# Altium integrated library Analog Devices Operational Amplifiers.IntLib: 2102 symbols (part 42 of 70)
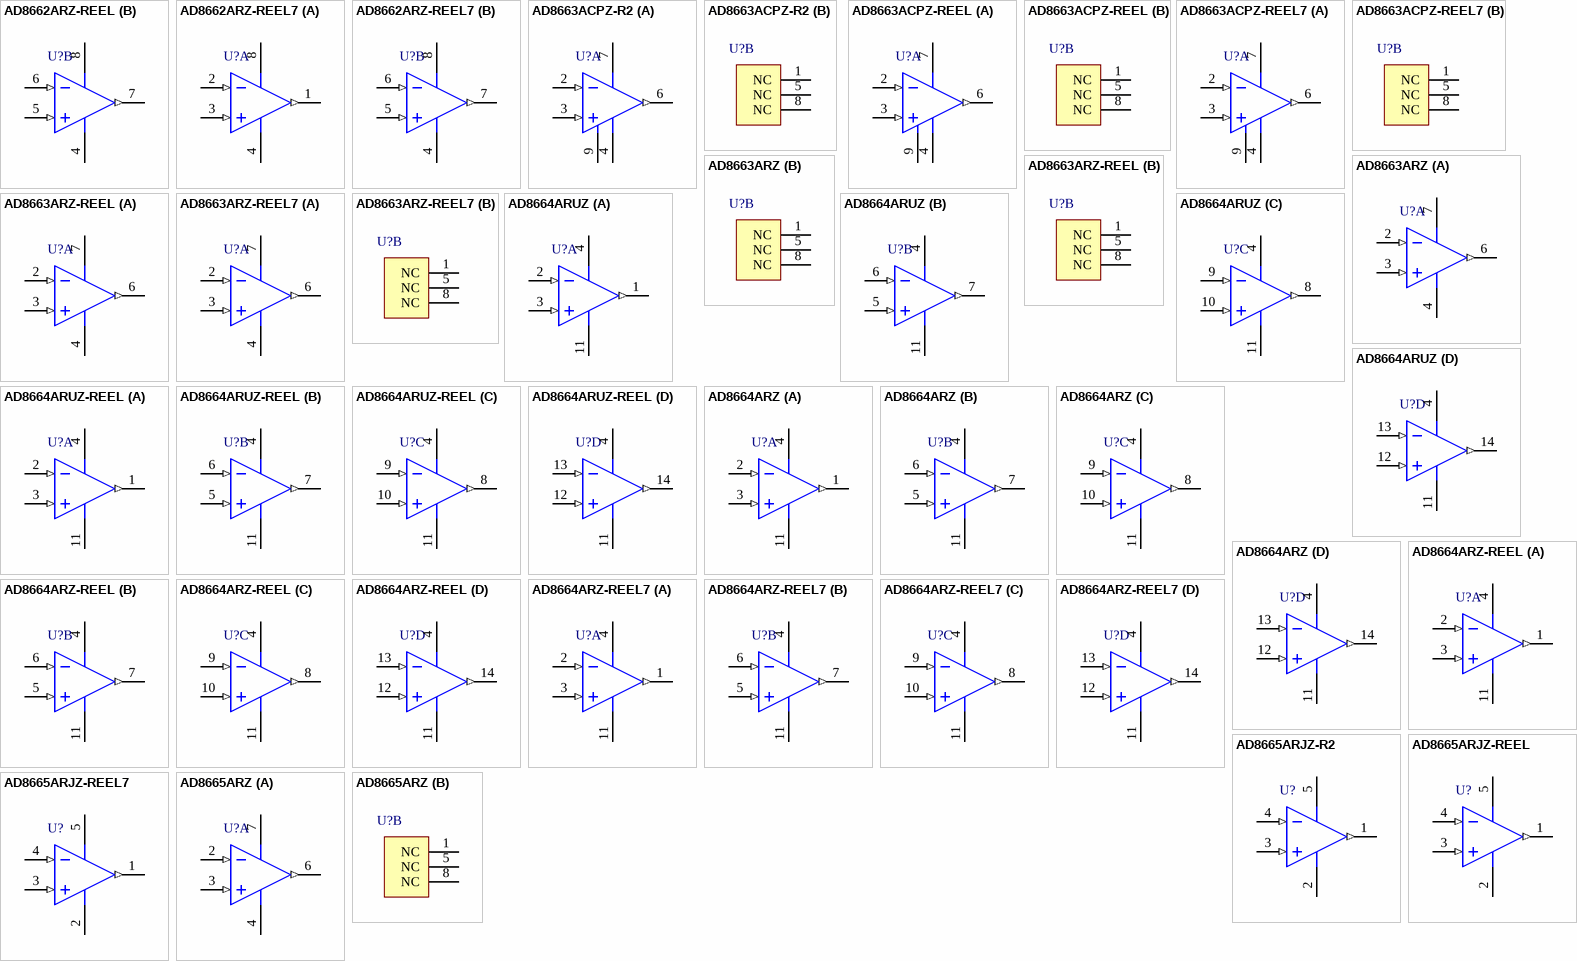
[diagram p155: symbols AD8662ARZ-REEL to AD8665ARZ]

## AD8664ARUZ
designator U?
Quad Channel Wide Bandwidth Operational Amplifier, 4 MHz BW, 3.5 V/us SR, Industrial, 14-pin SOP (RU-14), Tube; Generic Part Number: AD8664; Manufacturer: Analog Devices; PartNumber: AD8664ARUZ; Amplifiers Per Package: 4; Input Bias Current: 300fA; Input Offset Voltage: 50uV; Iq/Amp: 1.55mA; Small Signal Bandwidth: 4MHz; V Span Max: 16V; V Span Min: 5V; DatasheetVersion: Rev. D; PackageReference: RU-14; PackageDescription: 14-Pin Thin Shrink Small Outline Package, Body 5 x 4.4 mm, Pitch 0.65 mm; Supplier 1: Digi-Key; Supplier Part Number 1: AD8664ARUZ-ND; Supplier 2: Newark; Supplier Part Number 2: 28M4130; Slew Rate: 3.5V/us; Mounting Technology: Surface Mount; Code_JEDEC: MO-153AB-1; ComponentLink1Description: Manufacturer URL; ComponentLink1URL: http://www.analog.com/en/index.html; ComponentLink2Description: Datasheet; ComponentLink2URL: http://www.analog.com/static/imported-files/data_sheets/AD8661_8662.pdf; ComponentLink3Description: Package Specification; ComponentLink3URL: http://www.analog.com/static/imported-files/packages/36057385283879153717235186773RU14.pdf
footprint ADI-RU-14_N (SOP, 14-Leads, Body 5x4.4mm, Pitch 0.65mm, IPC Medium Density)
footprint ADI-RU-14_L (SOP, 14-Leads, Body 5x4.4mm, Pitch 0.65mm, IPC High Density)
footprint ADI-RU-14_M (SOP, 14-Leads, Body 5x4.4mm, Pitch 0.65mm, IPC Low Density)
pins on every part: 4 +V (power), 11 -V (power)
part A pins: 1 OUT A (out), 2 -IN A (in), 3 +IN A (in)
part B pins: 5 +IN B (in), 6 -IN B (in), 7 OUT B (out)
part C pins: 8 OUT C (out), 9 -IN C (in), 10 +IN C (in)
part D pins: 12 +IN D (in), 13 -IN D (in), 14 OUT D (out)

## AD8664ARUZ-REEL
designator U?
Quad Channel Wide Bandwidth Operational Amplifier, 4 MHz BW, 3.5 V/us SR, Industrial, 14-pin SOP (RU-14), Reel; Generic Part Number: AD8664; Manufacturer: Analog Devices; PartNumber: AD8664ARUZ-REEL; Amplifiers Per Package: 4; Input Bias Current: 300fA; Input Offset Voltage: 50uV; Iq/Amp: 1.55mA; Small Signal Bandwidth: 4MHz; V Span Max: 16V; V Span Min: 5V; DatasheetVersion: Rev. D; PackageReference: RU-14; PackageDescription: 14-Pin Thin Shrink Small Outline Package, Body 5 x 4.4 mm, Pitch 0.65 mm; Supplier 1: Digi-Key; Supplier Part Number 1: AD8664ARUZ-REEL-ND; Supplier 2: Newark; Supplier Part Number 2: 28M4131; Slew Rate: 3.5V/us; Mounting Technology: Surface Mount; Code_JEDEC: MO-153AB-1; ComponentLink1Description: Manufacturer URL; ComponentLink1URL: http://www.analog.com/en/index.html; ComponentLink2Description: Datasheet; ComponentLink2URL: http://www.analog.com/static/imported-files/data_sheets/AD8661_8662.pdf; ComponentLink3Description: Package Specification; ComponentLink3URL: http://www.analog.com/static/imported-files/packages/36057385283879153717235186773RU14.pdf
footprint ADI-RU-14_N (SOP, 14-Leads, Body 5x4.4mm, Pitch 0.65mm, IPC Medium Density)
footprint ADI-RU-14_L (SOP, 14-Leads, Body 5x4.4mm, Pitch 0.65mm, IPC High Density)
footprint ADI-RU-14_M (SOP, 14-Leads, Body 5x4.4mm, Pitch 0.65mm, IPC Low Density)
pins on every part: 4 +V (power), 11 -V (power)
part A pins: 1 OUT A (out), 2 -IN A (in), 3 +IN A (in)
part B pins: 5 +IN B (in), 6 -IN B (in), 7 OUT B (out)
part C pins: 8 OUT C (out), 9 -IN C (in), 10 +IN C (in)
part D pins: 12 +IN D (in), 13 -IN D (in), 14 OUT D (out)

## AD8664ARZ
designator U?
Quad Channel Wide Bandwidth Operational Amplifier, 4 MHz BW, 3.5 V/us SR, Industrial, 14-pin SOIC (R-14), Tube; Generic Part Number: AD8664; Manufacturer: Analog Devices; PartNumber: AD8664ARZ; Amplifiers Per Package: 4; Input Bias Current: 300fA; Input Offset Voltage: 50uV; Iq/Amp: 1.55mA; Small Signal Bandwidth: 4MHz; V Span Max: 16V; V Span Min: 5V; DatasheetVersion: Rev. D; PackageVersion: 060606-A; PackageReference: R-14; PackageDescription: 14-Pin Standard Small Outline Package, Body 8.65 x 3.9 mm, Pitch 1.27 mm; Supplier 1: Digi-Key; Supplier Part Number 1: AD8664ARZ-ND; Supplier 2: Farnell; Supplier Part Number 2: 1498687; Supplier 3: Newark; Supplier Part Number 3: 15P1030; Slew Rate: 3.5V/us; Mounting Technology: Surface Mount; Code_JEDEC: MS-012-AB; ComponentLink1Description: Manufacturer URL; ComponentLink1URL: http://www.analog.com/en/index.html; ComponentLink2Description: Datasheet; ComponentLink2URL: http://www.analog.com/static/imported-files/data_sheets/AD8661_8662.pdf; ComponentLink3Description: Package Specification; ComponentLink3URL: http://www.analog.com/static/imported-files/packages/PKG_PDF/SOIC_Narrow%20(R)/R_14.pdf
footprint ADI-R-14_N (SOIC, 14-Leads, Body 8.65x3.9mm, Pitch 1.27mm, IPC Medium Density)
footprint ADI-R-14_L (SOIC, 14-Leads, Body 8.65x3.9mm, Pitch 1.27mm, IPC High Density)
footprint ADI-R-14_M (SOIC, 14-Leads, Body 8.65x3.9mm, Pitch 1.27mm, IPC Low Density)
pins on every part: 4 +V (power), 11 -V (power)
part A pins: 1 OUT A (out), 2 -IN A (in), 3 +IN A (in)
part B pins: 5 +IN B (in), 6 -IN B (in), 7 OUT B (out)
part C pins: 8 OUT C (out), 9 -IN C (in), 10 +IN C (in)
part D pins: 12 +IN D (in), 13 -IN D (in), 14 OUT D (out)

## AD8664ARZ-REEL
designator U?
Quad Channel Wide Bandwidth Operational Amplifier, 4 MHz BW, 3.5 V/us SR, Industrial, 14-pin SOIC (R-14), Reel; Generic Part Number: AD8664; Manufacturer: Analog Devices; PartNumber: AD8664ARZ-REEL; Amplifiers Per Package: 4; Input Bias Current: 300fA; Input Offset Voltage: 50uV; Iq/Amp: 1.55mA; Small Signal Bandwidth: 4MHz; V Span Max: 16V; V Span Min: 5V; DatasheetVersion: Rev. D; PackageVersion: 060606-A; PackageReference: R-14; PackageDescription: 14-Pin Standard Small Outline Package, Body 8.65 x 3.9 mm, Pitch 1.27 mm; Supplier 1: Digi-Key; Supplier Part Number 1: AD8664ARZ-REEL-ND; Slew Rate: 3.5V/us; Mounting Technology: Surface Mount; Code_JEDEC: MS-012-AB; ComponentLink1Description: Manufacturer URL; ComponentLink1URL: http://www.analog.com/en/index.html; ComponentLink2Description: Datasheet; ComponentLink2URL: http://www.analog.com/static/imported-files/data_sheets/AD8661_8662.pdf; ComponentLink3Description: Package Specification; ComponentLink3URL: http://www.analog.com/static/imported-files/packages/PKG_PDF/SOIC_Narrow%20(R)/R_14.pdf
footprint ADI-R-14_N (SOIC, 14-Leads, Body 8.65x3.9mm, Pitch 1.27mm, IPC Medium Density)
footprint ADI-R-14_L (SOIC, 14-Leads, Body 8.65x3.9mm, Pitch 1.27mm, IPC High Density)
footprint ADI-R-14_M (SOIC, 14-Leads, Body 8.65x3.9mm, Pitch 1.27mm, IPC Low Density)
pins on every part: 4 +V (power), 11 -V (power)
part A pins: 1 OUT A (out), 2 -IN A (in), 3 +IN A (in)
part B pins: 5 +IN B (in), 6 -IN B (in), 7 OUT B (out)
part C pins: 8 OUT C (out), 9 -IN C (in), 10 +IN C (in)
part D pins: 12 +IN D (in), 13 -IN D (in), 14 OUT D (out)

## AD8664ARZ-REEL7
designator U?
Quad Channel Wide Bandwidth Operational Amplifier, 4 MHz BW, 3.5 V/us SR, Industrial, 14-pin SOIC (R-14), Reel; Generic Part Number: AD8664; Manufacturer: Analog Devices; PartNumber: AD8664ARZ-REEL7; Amplifiers Per Package: 4; Input Bias Current: 300fA; Input Offset Voltage: 50uV; Iq/Amp: 1.55mA; Small Signal Bandwidth: 4MHz; V Span Max: 16V; V Span Min: 5V; DatasheetVersion: Rev. D; PackageVersion: 060606-A; PackageReference: R-14; PackageDescription: 14-Pin Standard Small Outline Package, Body 8.65 x 3.9 mm, Pitch 1.27 mm; Supplier 1: Digi-Key; Supplier Part Number 1: AD8664ARZ-REEL7-ND; Slew Rate: 3.5V/us; Mounting Technology: Surface Mount; Code_JEDEC: MS-012-AB; ComponentLink1Description: Manufacturer URL; ComponentLink1URL: http://www.analog.com/en/index.html; ComponentLink2Description: Datasheet; ComponentLink2URL: http://www.analog.com/static/imported-files/data_sheets/AD8661_8662.pdf; ComponentLink3Description: Package Specification; ComponentLink3URL: http://www.analog.com/static/imported-files/packages/PKG_PDF/SOIC_Narrow%20(R)/R_14.pdf
footprint ADI-R-14_N (SOIC, 14-Leads, Body 8.65x3.9mm, Pitch 1.27mm, IPC Medium Density)
footprint ADI-R-14_L (SOIC, 14-Leads, Body 8.65x3.9mm, Pitch 1.27mm, IPC High Density)
footprint ADI-R-14_M (SOIC, 14-Leads, Body 8.65x3.9mm, Pitch 1.27mm, IPC Low Density)
pins on every part: 4 +V (power), 11 -V (power)
part A pins: 1 OUT A (out), 2 -IN A (in), 3 +IN A (in)
part B pins: 5 +IN B (in), 6 -IN B (in), 7 OUT B (out)
part C pins: 8 OUT C (out), 9 -IN C (in), 10 +IN C (in)
part D pins: 12 +IN D (in), 13 -IN D (in), 14 OUT D (out)

## AD8665ARJZ-R2
designator U?
Single Channel Wide Bandwidth Operational Amplifier, 4 MHz BW, 3.5 V/us SR, Industrial, 5-pin SOT23 (RJ-5), Reel; Generic Part Number: AD8665; Manufacturer: Analog Devices; PartNumber: AD8665ARJZ-R2; Amplifiers Per Package: 1; Input Bias Current: 200fA; Input Offset Voltage: 600uV; Iq/Amp: 1.55mA; Small Signal Bandwidth: 4MHz; V Span Max: 16V; V Span Min: 5V; DatasheetVersion: Rev. B; PackageVersion: 121608-A; PackageReference: RJ-5; PackageDescription: 5-Pin Small Outline Transistor Package, Body 2.9 x 1.6 mm, Pitch 0.95 mm; Supplier 1: Digi-Key; Supplier Part Number 1: AD8665ARJZ-R2-ND; Supplier 2: Farnell; Supplier Part Number 2: 1699551; Supplier 3: Newark; Supplier Part Number 3: 28M4137; Slew Rate: 3.5V/us; Mounting Technology: Surface Mount; Code_JEDEC: MO-178-AA; ComponentLink1Description: Manufacturer URL; ComponentLink1URL: http://www.analog.com/en/index.html; ComponentLink2Description: Datasheet; ComponentLink2URL: http://www.analog.com/static/imported-files/data_sheets/AD8665_AD8666_AD8668.pdf; ComponentLink3Description: Package Specification; ComponentLink3URL: http://www.analog.com/static/imported-files/packages/PKG_PDF/SOT-23(RJ)/RJ_5.pdf
footprint ADI-RJ-5_N (SOT-23, 5-Leads, Body 2.9x1.6mm, Pitch 0.95mm, IPC Medium Density)
footprint ADI-RJ-5_L (SOT-23, 5-Leads, Body 2.9x1.6mm, Pitch 0.95mm, IPC High Density)
footprint ADI-RJ-5_M (SOT-23, 5-Leads, Body 2.9x1.6mm, Pitch 0.95mm, IPC Low Density)
pins: 1 OUT (out), 2 -V (power), 3 +IN (in), 4 -IN (in), 5 +V (power)

## AD8665ARJZ-REEL
designator U?
Single Channel Wide Bandwidth Operational Amplifier, 4 MHz BW, 3.5 V/us SR, Industrial, 5-pin SOT23 (RJ-5), Reel; Generic Part Number: AD8665; Manufacturer: Analog Devices; PartNumber: AD8665ARJZ-REEL; Amplifiers Per Package: 1; Input Bias Current: 200fA; Input Offset Voltage: 600uV; Iq/Amp: 1.55mA; Small Signal Bandwidth: 4MHz; V Span Max: 16V; V Span Min: 5V; DatasheetVersion: Rev. B; PackageVersion: 121608-A; PackageReference: RJ-5; PackageDescription: 5-Pin Small Outline Transistor Package, Body 2.9 x 1.6 mm, Pitch 0.95 mm; Supplier 1: Digi-Key; Supplier Part Number 1: AD8665ARJZ-REEL-ND; Slew Rate: 3.5V/us; Mounting Technology: Surface Mount; Code_JEDEC: MO-178-AA; ComponentLink1Description: Manufacturer URL; ComponentLink1URL: http://www.analog.com/en/index.html; ComponentLink2Description: Datasheet; ComponentLink2URL: http://www.analog.com/static/imported-files/data_sheets/AD8665_AD8666_AD8668.pdf; ComponentLink3Description: Package Specification; ComponentLink3URL: http://www.analog.com/static/imported-files/packages/PKG_PDF/SOT-23(RJ)/RJ_5.pdf
footprint ADI-RJ-5_N (SOT-23, 5-Leads, Body 2.9x1.6mm, Pitch 0.95mm, IPC Medium Density)
footprint ADI-RJ-5_L (SOT-23, 5-Leads, Body 2.9x1.6mm, Pitch 0.95mm, IPC High Density)
footprint ADI-RJ-5_M (SOT-23, 5-Leads, Body 2.9x1.6mm, Pitch 0.95mm, IPC Low Density)
pins: 1 OUT (out), 2 -V (power), 3 +IN (in), 4 -IN (in), 5 +V (power)

## AD8665ARJZ-REEL7
designator U?
Single Channel Wide Bandwidth Operational Amplifier, 4 MHz BW, 3.5 V/us SR, Industrial, 5-pin SOT23 (RJ-5), Reel; Generic Part Number: AD8665; Manufacturer: Analog Devices; PartNumber: AD8665ARJZ-REEL7; Amplifiers Per Package: 1; Input Bias Current: 200fA; Input Offset Voltage: 600uV; Iq/Amp: 1.55mA; Small Signal Bandwidth: 4MHz; V Span Max: 16V; V Span Min: 5V; DatasheetVersion: Rev. B; PackageVersion: 121608-A; PackageReference: RJ-5; PackageDescription: 5-Pin Small Outline Transistor Package, Body 2.9 x 1.6 mm, Pitch 0.95 mm; Supplier 1: Digi-Key; Supplier Part Number 1: AD8665ARJZ-REEL7TR-ND; Supplier 2: Digi-Key; Supplier Part Number 2: AD8665ARJZ-REEL7CT-ND; Supplier 3: Digi-Key; Supplier Part Number 3: AD8665ARJZ-REEL7DKR-ND; Supplier 4: Newark; Supplier Part Number 4: 28M4136; Slew Rate: 3.5V/us; Mounting Technology: Surface Mount; Code_JEDEC: MO-178-AA; ComponentLink1Description: Manufacturer URL; ComponentLink1URL: http://www.analog.com/en/index.html; ComponentLink2Description: Datasheet; ComponentLink2URL: http://www.analog.com/static/imported-files/data_sheets/AD8665_AD8666_AD8668.pdf; ComponentLink3Description: Package Specification; ComponentLink3URL: http://www.analog.com/static/imported-files/packages/PKG_PDF/SOT-23(RJ)/RJ_5.pdf
footprint ADI-RJ-5_N (SOT-23, 5-Leads, Body 2.9x1.6mm, Pitch 0.95mm, IPC Medium Density)
footprint ADI-RJ-5_L (SOT-23, 5-Leads, Body 2.9x1.6mm, Pitch 0.95mm, IPC High Density)
footprint ADI-RJ-5_M (SOT-23, 5-Leads, Body 2.9x1.6mm, Pitch 0.95mm, IPC Low Density)
pins: 1 OUT (out), 2 -V (power), 3 +IN (in), 4 -IN (in), 5 +V (power)

## AD8665ARZ
designator U?
Single Channel Wide Bandwidth Operational Amplifier, 4 MHz BW, 3.5 V/us SR, Industrial, 8-pin SOIC (R-8), Tube; Generic Part Number: AD8665; Manufacturer: Analog Devices; PartNumber: AD8665ARZ; Amplifiers Per Package: 1; Input Bias Current: 200fA; Input Offset Voltage: 600uV; Iq/Amp: 1.55mA; Small Signal Bandwidth: 4MHz; V Span Max: 16V; V Span Min: 5V; DatasheetVersion: Rev. B; PackageVersion: 060506-A; PackageReference: R-8; PackageDescription: 8-Pin Standard Small Outline Package, Body 3.9 x 4.9 mm, Pitch 1.27 mm; Supplier 1: Digi-Key; Supplier Part Number 1: AD8665ARZ-ND; Supplier 2: Farnell; Supplier Part Number 2: 1316444; Supplier 3: Newark; Supplier Part Number 3: 31M4598; Supplier 4: Newark; Supplier Part Number 4: 28M4138; Slew Rate: 3.5V/us; Mounting Technology: Surface Mount; Code_JEDEC: MS-012-AA; ComponentLink1Description: Manufacturer URL; ComponentLink1URL: http://www.analog.com/en/index.html; ComponentLink2Description: Datasheet; ComponentLink2URL: http://www.analog.com/static/imported-files/data_sheets/AD8665_AD8666_AD8668.pdf; ComponentLink3Description: Package Specification; ComponentLink3URL: http://www.analog.com/static/imported-files/packages/PKG_PDF/SOIC_Narrow%20(R)/R_8.pdf
footprint ADI-R-8_N (SOIC, 8-Leads, Body 4.9x3.9mm, Pitch 1.27mm, IPC Medium Density)
footprint ADI-R-8_L (SOIC, 8-Leads, Body 4.9x3.9mm, Pitch 1.27mm, IPC High Density)
footprint ADI-R-8_M (SOIC, 8-Leads, Body 4.9x3.9mm, Pitch 1.27mm, IPC Low Density)
part A pins: 2 -IN (in), 3 +IN (in), 4 VEE (power), 6 OUT (out), 7 VCC (power)
part B pins: 1 NC, 5 NC, 8 NC

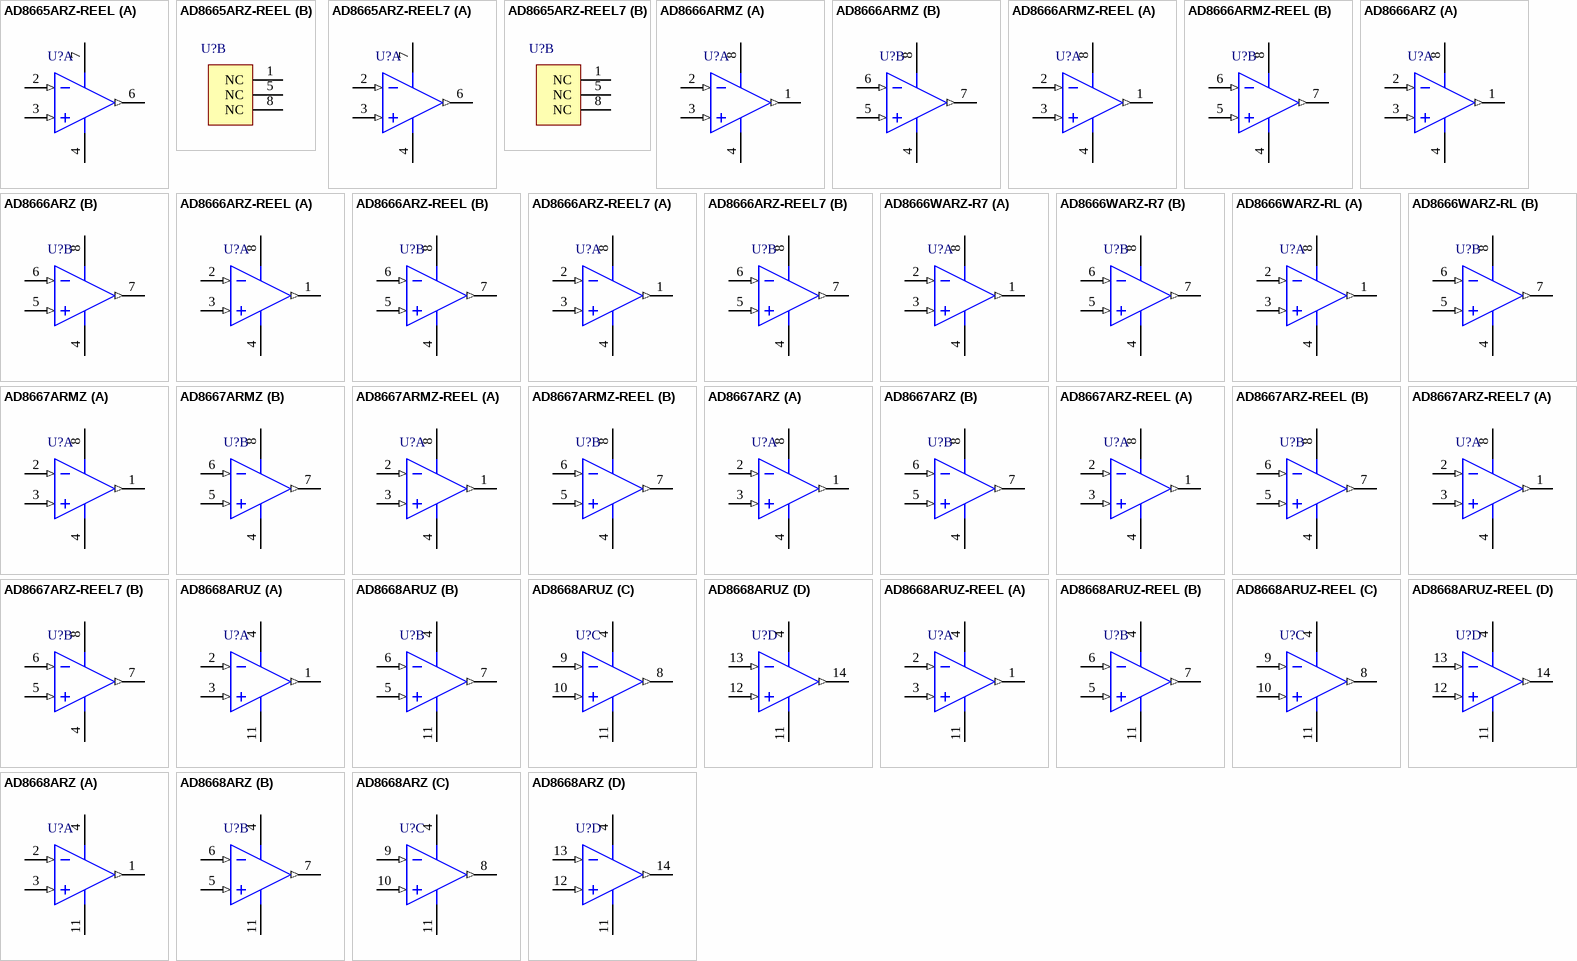
[diagram p65: symbols AD8665ARZ-REEL to AD8668ARZ]

## AD8665ARZ-REEL
designator U?
Single Channel Wide Bandwidth Operational Amplifier, 4 MHz BW, 3.5 V/us SR, Industrial, 8-pin SOIC (R-8), Reel; Generic Part Number: AD8665; Manufacturer: Analog Devices; PartNumber: AD8665ARZ-REEL; Amplifiers Per Package: 1; Input Bias Current: 200fA; Input Offset Voltage: 600uV; Iq/Amp: 1.55mA; Small Signal Bandwidth: 4MHz; V Span Max: 16V; V Span Min: 5V; DatasheetVersion: Rev. B; PackageVersion: 060506-A; PackageReference: R-8; PackageDescription: 8-Pin Standard Small Outline Package, Body 3.9 x 4.9 mm, Pitch 1.27 mm; Supplier 1: Digi-Key; Supplier Part Number 1: AD8665ARZ-REEL-ND; Slew Rate: 3.5V/us; Mounting Technology: Surface Mount; Code_JEDEC: MS-012-AA; ComponentLink1Description: Manufacturer URL; ComponentLink1URL: http://www.analog.com/en/index.html; ComponentLink2Description: Datasheet; ComponentLink2URL: http://www.analog.com/static/imported-files/data_sheets/AD8665_AD8666_AD8668.pdf; ComponentLink3Description: Package Specification; ComponentLink3URL: http://www.analog.com/static/imported-files/packages/PKG_PDF/SOIC_Narrow%20(R)/R_8.pdf
footprint ADI-R-8_N (SOIC, 8-Leads, Body 4.9x3.9mm, Pitch 1.27mm, IPC Medium Density)
footprint ADI-R-8_L (SOIC, 8-Leads, Body 4.9x3.9mm, Pitch 1.27mm, IPC High Density)
footprint ADI-R-8_M (SOIC, 8-Leads, Body 4.9x3.9mm, Pitch 1.27mm, IPC Low Density)
part A pins: 2 -IN (in), 3 +IN (in), 4 VEE (power), 6 OUT (out), 7 VCC (power)
part B pins: 1 NC, 5 NC, 8 NC

## AD8665ARZ-REEL7
designator U?
Single Channel Wide Bandwidth Operational Amplifier, 4 MHz BW, 3.5 V/us SR, Industrial, 8-pin SOIC (R-8), Reel; Generic Part Number: AD8665; Manufacturer: Analog Devices; PartNumber: AD8665ARZ-REEL7; Amplifiers Per Package: 1; Input Bias Current: 200fA; Input Offset Voltage: 600uV; Iq/Amp: 1.55mA; Small Signal Bandwidth: 4MHz; V Span Max: 16V; V Span Min: 5V; DatasheetVersion: Rev. B; PackageVersion: 060506-A; PackageReference: R-8; PackageDescription: 8-Pin Standard Small Outline Package, Body 3.9 x 4.9 mm, Pitch 1.27 mm; Supplier 1: Digi-Key; Supplier Part Number 1: AD8665ARZ-REEL7-ND; Slew Rate: 3.5V/us; Mounting Technology: Surface Mount; Code_JEDEC: MS-012-AA; ComponentLink1Description: Manufacturer URL; ComponentLink1URL: http://www.analog.com/en/index.html; ComponentLink2Description: Datasheet; ComponentLink2URL: http://www.analog.com/static/imported-files/data_sheets/AD8665_AD8666_AD8668.pdf; ComponentLink3Description: Package Specification; ComponentLink3URL: http://www.analog.com/static/imported-files/packages/PKG_PDF/SOIC_Narrow%20(R)/R_8.pdf
footprint ADI-R-8_N (SOIC, 8-Leads, Body 4.9x3.9mm, Pitch 1.27mm, IPC Medium Density)
footprint ADI-R-8_L (SOIC, 8-Leads, Body 4.9x3.9mm, Pitch 1.27mm, IPC High Density)
footprint ADI-R-8_M (SOIC, 8-Leads, Body 4.9x3.9mm, Pitch 1.27mm, IPC Low Density)
part A pins: 2 -IN (in), 3 +IN (in), 4 VEE (power), 6 OUT (out), 7 VCC (power)
part B pins: 1 NC, 5 NC, 8 NC

## AD8666ARMZ
designator U?
Double Channel Wide Bandwidth Operational Amplifier, 4 MHz BW, 3.5 V/us SR, Industrial, 8-pin SOP (RM-8), Tube; Generic Part Number: AD8666; Manufacturer: Analog Devices; PartNumber: AD8666ARMZ; Amplifiers Per Package: 2; Input Bias Current: 200fA; Input Offset Voltage: 600uV; Iq/Amp: 1.55mA; Small Signal Bandwidth: 4MHz; V Span Max: 16V; V Span Min: 5V; DatasheetVersion: Rev. B; PackageReference: RM-8; PackageDescription: 8-Pin Mini Small Outline Package, Body 3 x 3 mm, Pitch 0.65 mm; Supplier 1: Digi-Key; Supplier Part Number 1: AD8666ARMZ-ND; Supplier 2: Newark; Supplier Part Number 2: 14R8724; Slew Rate: 3.5V/us; Mounting Technology: Surface Mount; Code_JEDEC: MO-187-AA; ComponentLink1Description: Manufacturer URL; ComponentLink1URL: http://www.analog.com/en/index.html; ComponentLink2Description: Datasheet; ComponentLink2URL: http://www.analog.com/static/imported-files/data_sheets/AD8665_AD8666_AD8668.pdf; ComponentLink3Description: Package Specification; ComponentLink3URL: http://www.analog.com/static/imported-files/packages/PKG_PDF/MSOP%28RM%29/RM_8.pdf
footprint ADI-RM-8_N (SOP, 8-Leads, Body 3x3mm, Pitch 0.65mm, IPC Medium Density)
footprint ADI-RM-8_L (SOP, 8-Leads, Body 3x3mm, Pitch 0.65mm, IPC High Density)
footprint ADI-RM-8_M (SOP, 8-Leads, Body 3x3mm, Pitch 0.65mm, IPC Low Density)
pins on every part: 4 -V (power), 8 +V (power)
part A pins: 1 OUT A (out), 2 -IN A (in), 3 +IN A (in)
part B pins: 5 +IN B (in), 6 -IN B (in), 7 OUT B (out)

## AD8666ARMZ-REEL
designator U?
Double Channel Wide Bandwidth Operational Amplifier, 4 MHz BW, 3.5 V/us SR, Industrial, 8-pin SOP (RM-8), Reel; Generic Part Number: AD8666; Manufacturer: Analog Devices; PartNumber: AD8666ARMZ-REEL; Amplifiers Per Package: 2; Input Bias Current: 200fA; Input Offset Voltage: 600uV; Iq/Amp: 1.55mA; Small Signal Bandwidth: 4MHz; V Span Max: 16V; V Span Min: 5V; DatasheetVersion: Rev. B; PackageReference: RM-8; PackageDescription: 8-Pin Mini Small Outline Package, Body 3 x 3 mm, Pitch 0.65 mm; Supplier 1: Digi-Key; Supplier Part Number 1: AD8666ARMZ-REELTR-ND; Supplier 2: Digi-Key; Supplier Part Number 2: AD8666ARMZ-REELCT-ND; Supplier 3: Digi-Key; Supplier Part Number 3: AD8666ARMZ-REELDKR-ND; Supplier 4: Newark; Supplier Part Number 4: 12M9153; Slew Rate: 3.5V/us; Mounting Technology: Surface Mount; Code_JEDEC: MO-187-AA; ComponentLink1Description: Manufacturer URL; ComponentLink1URL: http://www.analog.com/en/index.html; ComponentLink2Description: Datasheet; ComponentLink2URL: http://www.analog.com/static/imported-files/data_sheets/AD8665_AD8666_AD8668.pdf; ComponentLink3Description: Package Specification; ComponentLink3URL: http://www.analog.com/static/imported-files/packages/PKG_PDF/MSOP%28RM%29/RM_8.pdf
footprint ADI-RM-8_N (SOP, 8-Leads, Body 3x3mm, Pitch 0.65mm, IPC Medium Density)
footprint ADI-RM-8_L (SOP, 8-Leads, Body 3x3mm, Pitch 0.65mm, IPC High Density)
footprint ADI-RM-8_M (SOP, 8-Leads, Body 3x3mm, Pitch 0.65mm, IPC Low Density)
pins on every part: 4 -V (power), 8 +V (power)
part A pins: 1 OUT A (out), 2 -IN A (in), 3 +IN A (in)
part B pins: 5 +IN B (in), 6 -IN B (in), 7 OUT B (out)

## AD8666ARZ
designator U?
Double Channel Wide Bandwidth Operational Amplifier, 4 MHz BW, 3.5 V/us SR, Industrial, 8-pin SOIC (R-8), Tube; Generic Part Number: AD8666; Manufacturer: Analog Devices; PartNumber: AD8666ARZ; Amplifiers Per Package: 2; Input Bias Current: 200fA; Input Offset Voltage: 600uV; Iq/Amp: 1.55mA; Small Signal Bandwidth: 4MHz; V Span Max: 16V; V Span Min: 5V; DatasheetVersion: Rev. B; PackageVersion: 060506-A; PackageReference: R-8; PackageDescription: 8-Pin Standard Small Outline Package, Body 3.9 x 4.9 mm, Pitch 1.27 mm; Supplier 1: Digi-Key; Supplier Part Number 1: AD8666ARZ-ND; Supplier 2: Farnell; Supplier Part Number 2: 1274214; Supplier 3: Newark; Supplier Part Number 3: 19M0995; Slew Rate: 3.5V/us; Mounting Technology: Surface Mount; Code_JEDEC: MS-012-AA; ComponentLink1Description: Manufacturer URL; ComponentLink1URL: http://www.analog.com/en/index.html; ComponentLink2Description: Datasheet; ComponentLink2URL: http://www.analog.com/static/imported-files/data_sheets/AD8665_AD8666_AD8668.pdf; ComponentLink3Description: Package Specification; ComponentLink3URL: http://www.analog.com/static/imported-files/packages/PKG_PDF/SOIC_Narrow%20(R)/R_8.pdf
footprint ADI-R-8_N (SOIC, 8-Leads, Body 4.9x3.9mm, Pitch 1.27mm, IPC Medium Density)
footprint ADI-R-8_L (SOIC, 8-Leads, Body 4.9x3.9mm, Pitch 1.27mm, IPC High Density)
footprint ADI-R-8_M (SOIC, 8-Leads, Body 4.9x3.9mm, Pitch 1.27mm, IPC Low Density)
pins on every part: 4 -V (power), 8 +V (power)
part A pins: 1 OUT A (out), 2 -IN A (in), 3 +IN A (in)
part B pins: 5 +IN B (in), 6 -IN B (in), 7 OUT B (out)

## AD8666ARZ-REEL
designator U?
Double Channel Wide Bandwidth Operational Amplifier, 4 MHz BW, 3.5 V/us SR, Industrial, 8-pin SOIC (R-8), Reel; Generic Part Number: AD8666; Manufacturer: Analog Devices; PartNumber: AD8666ARZ-REEL; Amplifiers Per Package: 2; Input Bias Current: 200fA; Input Offset Voltage: 600uV; Iq/Amp: 1.55mA; Small Signal Bandwidth: 4MHz; V Span Max: 16V; V Span Min: 5V; DatasheetVersion: Rev. B; PackageVersion: 060506-A; PackageReference: R-8; PackageDescription: 8-Pin Standard Small Outline Package, Body 3.9 x 4.9 mm, Pitch 1.27 mm; Supplier 1: Digi-Key; Supplier Part Number 1: AD8666ARZ-REEL-ND; Slew Rate: 3.5V/us; Mounting Technology: Surface Mount; Code_JEDEC: MS-012-AA; ComponentLink1Description: Manufacturer URL; ComponentLink1URL: http://www.analog.com/en/index.html; ComponentLink2Description: Datasheet; ComponentLink2URL: http://www.analog.com/static/imported-files/data_sheets/AD8665_AD8666_AD8668.pdf; ComponentLink3Description: Package Specification; ComponentLink3URL: http://www.analog.com/static/imported-files/packages/PKG_PDF/SOIC_Narrow%20(R)/R_8.pdf
footprint ADI-R-8_N (SOIC, 8-Leads, Body 4.9x3.9mm, Pitch 1.27mm, IPC Medium Density)
footprint ADI-R-8_L (SOIC, 8-Leads, Body 4.9x3.9mm, Pitch 1.27mm, IPC High Density)
footprint ADI-R-8_M (SOIC, 8-Leads, Body 4.9x3.9mm, Pitch 1.27mm, IPC Low Density)
pins on every part: 4 -V (power), 8 +V (power)
part A pins: 1 OUT A (out), 2 -IN A (in), 3 +IN A (in)
part B pins: 5 +IN B (in), 6 -IN B (in), 7 OUT B (out)

## AD8666ARZ-REEL7
designator U?
Double Channel Wide Bandwidth Operational Amplifier, 4 MHz BW, 3.5 V/us SR, Industrial, 8-pin SOIC (R-8), Reel; Generic Part Number: AD8666; Manufacturer: Analog Devices; PartNumber: AD8666ARZ-REEL7; Amplifiers Per Package: 2; Input Bias Current: 200fA; Input Offset Voltage: 600uV; Iq/Amp: 1.55mA; Small Signal Bandwidth: 4MHz; V Span Max: 16V; V Span Min: 5V; DatasheetVersion: Rev. B; PackageVersion: 060506-A; PackageReference: R-8; PackageDescription: 8-Pin Standard Small Outline Package, Body 3.9 x 4.9 mm, Pitch 1.27 mm; Supplier 1: Digi-Key; Supplier Part Number 1: AD8666ARZ-REEL7TR-ND; Supplier 2: Digi-Key; Supplier Part Number 2: AD8666ARZ-REEL7CT-ND; Supplier 3: Digi-Key; Supplier Part Number 3: AD8666ARZ-REEL7DKR-ND; Slew Rate: 3.5V/us; Mounting Technology: Surface Mount; Code_JEDEC: MS-012-AA; ComponentLink1Description: Manufacturer URL; ComponentLink1URL: http://www.analog.com/en/index.html; ComponentLink2Description: Datasheet; ComponentLink2URL: http://www.analog.com/static/imported-files/data_sheets/AD8665_AD8666_AD8668.pdf; ComponentLink3Description: Package Specification; ComponentLink3URL: http://www.analog.com/static/imported-files/packages/PKG_PDF/SOIC_Narrow%20(R)/R_8.pdf
footprint ADI-R-8_N (SOIC, 8-Leads, Body 4.9x3.9mm, Pitch 1.27mm, IPC Medium Density)
footprint ADI-R-8_L (SOIC, 8-Leads, Body 4.9x3.9mm, Pitch 1.27mm, IPC High Density)
footprint ADI-R-8_M (SOIC, 8-Leads, Body 4.9x3.9mm, Pitch 1.27mm, IPC Low Density)
pins on every part: 4 -V (power), 8 +V (power)
part A pins: 1 OUT A (out), 2 -IN A (in), 3 +IN A (in)
part B pins: 5 +IN B (in), 6 -IN B (in), 7 OUT B (out)

## AD8666WARZ-R7
designator U?
Double Channel Wide Bandwidth Operational Amplifier, 4 MHz BW, 3.5 V/us SR, Automotive, 8-pin SOIC (R-8), Reel; Generic Part Number: AD8666; Manufacturer: Analog Devices; PartNumber: AD8666WARZ-R7; Amplifiers Per Package: 2; Input Bias Current: 200fA; Input Offset Voltage: 600uV; Iq/Amp: 1.55mA; Small Signal Bandwidth: 4MHz; V Span Max: 16V; V Span Min: 5V; DatasheetVersion: Rev. B; PackageVersion: 060506-A; PackageReference: R-8; PackageDescription: 8-Pin Standard Small Outline Package, Body 3.9 x 4.9 mm, Pitch 1.27 mm; Supplier 1: Digi-Key; Supplier Part Number 1: AD8666WARZ-R7-ND; Slew Rate: 3.5V/us; Mounting Technology: Surface Mount; Code_JEDEC: MS-012-AA; ComponentLink1Description: Manufacturer URL; ComponentLink1URL: http://www.analog.com/en/index.html; ComponentLink2Description: Datasheet; ComponentLink2URL: http://www.analog.com/static/imported-files/data_sheets/AD8665_AD8666_AD8668.pdf; ComponentLink3Description: Package Specification; ComponentLink3URL: http://www.analog.com/static/imported-files/packages/PKG_PDF/SOIC_Narrow%20(R)/R_8.pdf
footprint ADI-R-8_N (SOIC, 8-Leads, Body 4.9x3.9mm, Pitch 1.27mm, IPC Medium Density)
footprint ADI-R-8_L (SOIC, 8-Leads, Body 4.9x3.9mm, Pitch 1.27mm, IPC High Density)
footprint ADI-R-8_M (SOIC, 8-Leads, Body 4.9x3.9mm, Pitch 1.27mm, IPC Low Density)
pins on every part: 4 -V (power), 8 +V (power)
part A pins: 1 OUT A (out), 2 -IN A (in), 3 +IN A (in)
part B pins: 5 +IN B (in), 6 -IN B (in), 7 OUT B (out)

## AD8666WARZ-RL
designator U?
Double Channel Wide Bandwidth Operational Amplifier, 4 MHz BW, 3.5 V/us SR, Automotive, 8-pin SOIC (R-8), Reel; Generic Part Number: AD8666; Manufacturer: Analog Devices; PartNumber: AD8666WARZ-RL; Amplifiers Per Package: 2; Input Bias Current: 200fA; Input Offset Voltage: 600uV; Iq/Amp: 1.55mA; Small Signal Bandwidth: 4MHz; V Span Max: 16V; V Span Min: 5V; DatasheetVersion: Rev. B; PackageVersion: 060506-A; PackageReference: R-8; PackageDescription: 8-Pin Standard Small Outline Package, Body 3.9 x 4.9 mm, Pitch 1.27 mm; Supplier 1: Digi-Key; Supplier Part Number 1: AD8666WARZ-RL-ND; Slew Rate: 3.5V/us; Mounting Technology: Surface Mount; Code_JEDEC: MS-012-AA; ComponentLink1Description: Manufacturer URL; ComponentLink1URL: http://www.analog.com/en/index.html; ComponentLink2Description: Datasheet; ComponentLink2URL: http://www.analog.com/static/imported-files/data_sheets/AD8665_AD8666_AD8668.pdf; ComponentLink3Description: Package Specification; ComponentLink3URL: http://www.analog.com/static/imported-files/packages/PKG_PDF/SOIC_Narrow%20(R)/R_8.pdf
footprint ADI-R-8_N (SOIC, 8-Leads, Body 4.9x3.9mm, Pitch 1.27mm, IPC Medium Density)
footprint ADI-R-8_L (SOIC, 8-Leads, Body 4.9x3.9mm, Pitch 1.27mm, IPC High Density)
footprint ADI-R-8_M (SOIC, 8-Leads, Body 4.9x3.9mm, Pitch 1.27mm, IPC Low Density)
pins on every part: 4 -V (power), 8 +V (power)
part A pins: 1 OUT A (out), 2 -IN A (in), 3 +IN A (in)
part B pins: 5 +IN B (in), 6 -IN B (in), 7 OUT B (out)

## AD8667ARMZ
designator U?
Double Channel Single-Supply Operation Operational Amplifier, 520 KHz BW, 260 mV/us SR, Industrial, 8-pin SOP (RM-8), Tube; Generic Part Number: AD8667; Manufacturer: Analog Devices; PartNumber: AD8667ARMZ; Amplifiers Per Package: 2; Input Bias Current: 300fA; Input Offset Voltage: 30uV; Iq/Amp: 285uA; Small Signal Bandwidth: 520KHz; V Span Max: 16V; V Span Min: 5V; DatasheetVersion: Rev. B; PackageReference: RM-8; PackageDescription: 8-Pin Mini Small Outline Package, Body 3 x 3 mm, Pitch 0.65 mm; Supplier 1: Digi-Key; Supplier Part Number 1: AD8667ARMZ-ND; Slew Rate: 260mV/us; Mounting Technology: Surface Mount; Code_JEDEC: MO-187-AA; ComponentLink1Description: Manufacturer URL; ComponentLink1URL: http://www.analog.com/en/index.html; ComponentLink2Description: Datasheet; ComponentLink2URL: http://www.analog.com/static/imported-files/data_sheets/AD8663_8667_8669.pdf; ComponentLink3Description: Package Specification; ComponentLink3URL: http://www.analog.com/static/imported-files/packages/PKG_PDF/MSOP%28RM%29/RM_8.pdf
footprint ADI-RM-8_N (SOP, 8-Leads, Body 3x3mm, Pitch 0.65mm, IPC Medium Density)
footprint ADI-RM-8_L (SOP, 8-Leads, Body 3x3mm, Pitch 0.65mm, IPC High Density)
footprint ADI-RM-8_M (SOP, 8-Leads, Body 3x3mm, Pitch 0.65mm, IPC Low Density)
pins on every part: 4 -V (power), 8 +V (power)
part A pins: 1 OUT A (out), 2 -IN A (in), 3 +IN A (in)
part B pins: 5 +IN B (in), 6 -IN B (in), 7 OUT B (out)

## AD8667ARMZ-REEL
designator U?
Double Channel Single-Supply Operation Operational Amplifier, 520 KHz BW, 260 mV/us SR, Industrial, 8-pin SOP (RM-8), Reel; Generic Part Number: AD8667; Manufacturer: Analog Devices; PartNumber: AD8667ARMZ-REEL; Amplifiers Per Package: 2; Input Bias Current: 300fA; Input Offset Voltage: 30uV; Iq/Amp: 285uA; Small Signal Bandwidth: 520KHz; V Span Max: 16V; V Span Min: 5V; DatasheetVersion: Rev. B; PackageReference: RM-8; PackageDescription: 8-Pin Mini Small Outline Package, Body 3 x 3 mm, Pitch 0.65 mm; Supplier 1: Digi-Key; Supplier Part Number 1: AD8667ARMZ-REELTR-ND; Supplier 2: Digi-Key; Supplier Part Number 2: AD8667ARMZ-REELCT-ND; Supplier 3: Digi-Key; Supplier Part Number 3: AD8667ARMZ-REELDKR-ND; Supplier 4: Newark; Supplier Part Number 4: 46M5283; Slew Rate: 260mV/us; Mounting Technology: Surface Mount; Code_JEDEC: MO-187-AA; ComponentLink1Description: Manufacturer URL; ComponentLink1URL: http://www.analog.com/en/index.html; ComponentLink2Description: Datasheet; ComponentLink2URL: http://www.analog.com/static/imported-files/data_sheets/AD8663_8667_8669.pdf; ComponentLink3Description: Package Specification; ComponentLink3URL: http://www.analog.com/static/imported-files/packages/PKG_PDF/MSOP%28RM%29/RM_8.pdf
footprint ADI-RM-8_N (SOP, 8-Leads, Body 3x3mm, Pitch 0.65mm, IPC Medium Density)
footprint ADI-RM-8_L (SOP, 8-Leads, Body 3x3mm, Pitch 0.65mm, IPC High Density)
footprint ADI-RM-8_M (SOP, 8-Leads, Body 3x3mm, Pitch 0.65mm, IPC Low Density)
pins on every part: 4 -V (power), 8 +V (power)
part A pins: 1 OUT A (out), 2 -IN A (in), 3 +IN A (in)
part B pins: 5 +IN B (in), 6 -IN B (in), 7 OUT B (out)

## AD8667ARZ
designator U?
Double Channel Single-Supply Operation Operational Amplifier, 520 KHz BW, 260 mV/us SR, Industrial, 8-pin SOIC (R-8), Tube; Generic Part Number: AD8667; Manufacturer: Analog Devices; PartNumber: AD8667ARZ; Amplifiers Per Package: 2; Input Bias Current: 300fA; Input Offset Voltage: 30uV; Iq/Amp: 285uA; Small Signal Bandwidth: 520KHz; V Span Max: 16V; V Span Min: 5V; DatasheetVersion: Rev. B; PackageVersion: 060506-A; PackageReference: R-8; PackageDescription: 8-Pin Standard Small Outline Package, Body 3.9 x 4.9 mm, Pitch 1.27 mm; Supplier 1: Digi-Key; Supplier Part Number 1: AD8667ARZ-ND; Supplier 2: Farnell; Supplier Part Number 2: 1438874; Supplier 3: Newark; Supplier Part Number 3: 15P1031; Supplier 4: Newark; Supplier Part Number 4: 46M5285; Slew Rate: 260mV/us; Mounting Technology: Surface Mount; Code_JEDEC: MS-012-AA; ComponentLink1Description: Manufacturer URL; ComponentLink1URL: http://www.analog.com/en/index.html; ComponentLink2Description: Datasheet; ComponentLink2URL: http://www.analog.com/static/imported-files/data_sheets/AD8663_8667_8669.pdf; ComponentLink3Description: Package Specification; ComponentLink3URL: http://www.analog.com/static/imported-files/packages/PKG_PDF/SOIC_Narrow%20(R)/R_8.pdf
footprint ADI-R-8_N (SOIC, 8-Leads, Body 4.9x3.9mm, Pitch 1.27mm, IPC Medium Density)
footprint ADI-R-8_L (SOIC, 8-Leads, Body 4.9x3.9mm, Pitch 1.27mm, IPC High Density)
footprint ADI-R-8_M (SOIC, 8-Leads, Body 4.9x3.9mm, Pitch 1.27mm, IPC Low Density)
pins on every part: 4 -V (power), 8 +V (power)
part A pins: 1 OUT A (out), 2 -IN A (in), 3 +IN A (in)
part B pins: 5 +IN B (in), 6 -IN B (in), 7 OUT B (out)

## AD8667ARZ-REEL
designator U?
Double Channel Single-Supply Operation Operational Amplifier, 520 KHz BW, 260 mV/us SR, Industrial, 8-pin SOIC (R-8), Reel; Generic Part Number: AD8667; Manufacturer: Analog Devices; PartNumber: AD8667ARZ-REEL; Amplifiers Per Package: 2; Input Bias Current: 300fA; Input Offset Voltage: 30uV; Iq/Amp: 285uA; Small Signal Bandwidth: 520KHz; V Span Max: 16V; V Span Min: 5V; DatasheetVersion: Rev. B; PackageVersion: 060506-A; PackageReference: R-8; PackageDescription: 8-Pin Standard Small Outline Package, Body 3.9 x 4.9 mm, Pitch 1.27 mm; Supplier 1: Digi-Key; Supplier Part Number 1: AD8667ARZ-REEL-ND; Supplier 2: Newark; Supplier Part Number 2: 46M5286; Slew Rate: 260mV/us; Mounting Technology: Surface Mount; Code_JEDEC: MS-012-AA; ComponentLink1Description: Manufacturer URL; ComponentLink1URL: http://www.analog.com/en/index.html; ComponentLink2Description: Datasheet; ComponentLink2URL: http://www.analog.com/static/imported-files/data_sheets/AD8663_8667_8669.pdf; ComponentLink3Description: Package Specification; ComponentLink3URL: http://www.analog.com/static/imported-files/packages/PKG_PDF/SOIC_Narrow%20(R)/R_8.pdf
footprint ADI-R-8_N (SOIC, 8-Leads, Body 4.9x3.9mm, Pitch 1.27mm, IPC Medium Density)
footprint ADI-R-8_L (SOIC, 8-Leads, Body 4.9x3.9mm, Pitch 1.27mm, IPC High Density)
footprint ADI-R-8_M (SOIC, 8-Leads, Body 4.9x3.9mm, Pitch 1.27mm, IPC Low Density)
pins on every part: 4 -V (power), 8 +V (power)
part A pins: 1 OUT A (out), 2 -IN A (in), 3 +IN A (in)
part B pins: 5 +IN B (in), 6 -IN B (in), 7 OUT B (out)

## AD8667ARZ-REEL7
designator U?
Double Channel Single-Supply Operation Operational Amplifier, 520 KHz BW, 260 mV/us SR, Industrial, 8-pin SOIC (R-8), Reel; Generic Part Number: AD8667; Manufacturer: Analog Devices; PartNumber: AD8667ARZ-REEL7; Amplifiers Per Package: 2; Input Bias Current: 300fA; Input Offset Voltage: 30uV; Iq/Amp: 285uA; Small Signal Bandwidth: 520KHz; V Span Max: 16V; V Span Min: 5V; DatasheetVersion: Rev. B; PackageVersion: 060506-A; PackageReference: R-8; PackageDescription: 8-Pin Standard Small Outline Package, Body 3.9 x 4.9 mm, Pitch 1.27 mm; Supplier 1: Digi-Key; Supplier Part Number 1: AD8667ARZ-REEL7-ND; Slew Rate: 260mV/us; Mounting Technology: Surface Mount; Code_JEDEC: MS-012-AA; ComponentLink1Description: Manufacturer URL; ComponentLink1URL: http://www.analog.com/en/index.html; ComponentLink2Description: Datasheet; ComponentLink2URL: http://www.analog.com/static/imported-files/data_sheets/AD8663_8667_8669.pdf; ComponentLink3Description: Package Specification; ComponentLink3URL: http://www.analog.com/static/imported-files/packages/PKG_PDF/SOIC_Narrow%20(R)/R_8.pdf
footprint ADI-R-8_N (SOIC, 8-Leads, Body 4.9x3.9mm, Pitch 1.27mm, IPC Medium Density)
footprint ADI-R-8_L (SOIC, 8-Leads, Body 4.9x3.9mm, Pitch 1.27mm, IPC High Density)
footprint ADI-R-8_M (SOIC, 8-Leads, Body 4.9x3.9mm, Pitch 1.27mm, IPC Low Density)
pins on every part: 4 -V (power), 8 +V (power)
part A pins: 1 OUT A (out), 2 -IN A (in), 3 +IN A (in)
part B pins: 5 +IN B (in), 6 -IN B (in), 7 OUT B (out)

## AD8668ARUZ
designator U?
Quad Channel Wide Bandwidth Operational Amplifier, 4 MHz BW, 3.5 V/us SR, Industrial, 14-pin SOP (RU-14), Tube; Generic Part Number: AD8668; Manufacturer: Analog Devices; PartNumber: AD8668ARUZ; Amplifiers Per Package: 4; Input Bias Current: 200fA; Input Offset Voltage: 600uV; Iq/Amp: 1.55mA; Small Signal Bandwidth: 4MHz; V Span Max: 16V; V Span Min: 5V; DatasheetVersion: Rev. B; PackageReference: RU-14; PackageDescription: 14-Pin Thin Shrink Small Outline Package, Body 5 x 4.4 mm, Pitch 0.65 mm; Supplier 1: Digi-Key; Supplier Part Number 1: AD8668ARUZ-ND; Supplier 2: Farnell; Supplier Part Number 2: 1274213; Supplier 3: Newark; Supplier Part Number 3: 19M0996; Slew Rate: 3.5V/us; Mounting Technology: Surface Mount; Code_JEDEC: MO-153AB-1; ComponentLink1Description: Manufacturer URL; ComponentLink1URL: http://www.analog.com/en/index.html; ComponentLink2Description: Datasheet; ComponentLink2URL: http://www.analog.com/static/imported-files/data_sheets/AD8665_AD8666_AD8668.pdf; ComponentLink3Description: Package Specification; ComponentLink3URL: http://www.analog.com/static/imported-files/packages/36057385283879153717235186773RU14.pdf
footprint ADI-RU-14_N (SOP, 14-Leads, Body 5x4.4mm, Pitch 0.65mm, IPC Medium Density)
footprint ADI-RU-14_L (SOP, 14-Leads, Body 5x4.4mm, Pitch 0.65mm, IPC High Density)
footprint ADI-RU-14_M (SOP, 14-Leads, Body 5x4.4mm, Pitch 0.65mm, IPC Low Density)
pins on every part: 4 +V (power), 11 -V (power)
part A pins: 1 OUT A (out), 2 -IN A (in), 3 +IN A (in)
part B pins: 5 +IN B (in), 6 -IN B (in), 7 OUT B (out)
part C pins: 8 OUT C (out), 9 -IN C (in), 10 +IN C (in)
part D pins: 12 +IN D (in), 13 -IN D (in), 14 OUT D (out)

## AD8668ARUZ-REEL
designator U?
Quad Channel Wide Bandwidth Operational Amplifier, 4 MHz BW, 3.5 V/us SR, Industrial, 14-pin SOP (RU-14), Reel; Generic Part Number: AD8668; Manufacturer: Analog Devices; PartNumber: AD8668ARUZ-REEL; Amplifiers Per Package: 4; Input Bias Current: 200fA; Input Offset Voltage: 600uV; Iq/Amp: 1.55mA; Small Signal Bandwidth: 4MHz; V Span Max: 16V; V Span Min: 5V; DatasheetVersion: Rev. B; PackageReference: RU-14; PackageDescription: 14-Pin Thin Shrink Small Outline Package, Body 5 x 4.4 mm, Pitch 0.65 mm; Supplier 1: Digi-Key; Supplier Part Number 1: AD8668ARUZ-REEL-ND; Slew Rate: 3.5V/us; Mounting Technology: Surface Mount; Code_JEDEC: MO-153AB-1; ComponentLink1Description: Manufacturer URL; ComponentLink1URL: http://www.analog.com/en/index.html; ComponentLink2Description: Datasheet; ComponentLink2URL: http://www.analog.com/static/imported-files/data_sheets/AD8665_AD8666_AD8668.pdf; ComponentLink3Description: Package Specification; ComponentLink3URL: http://www.analog.com/static/imported-files/packages/36057385283879153717235186773RU14.pdf
footprint ADI-RU-14_N (SOP, 14-Leads, Body 5x4.4mm, Pitch 0.65mm, IPC Medium Density)
footprint ADI-RU-14_L (SOP, 14-Leads, Body 5x4.4mm, Pitch 0.65mm, IPC High Density)
footprint ADI-RU-14_M (SOP, 14-Leads, Body 5x4.4mm, Pitch 0.65mm, IPC Low Density)
pins on every part: 4 +V (power), 11 -V (power)
part A pins: 1 OUT A (out), 2 -IN A (in), 3 +IN A (in)
part B pins: 5 +IN B (in), 6 -IN B (in), 7 OUT B (out)
part C pins: 8 OUT C (out), 9 -IN C (in), 10 +IN C (in)
part D pins: 12 +IN D (in), 13 -IN D (in), 14 OUT D (out)

## AD8668ARZ
designator U?
Quad Channel Wide Bandwidth Operational Amplifier, 4 MHz BW, 3.5 V/us SR, Industrial, 14-pin SOIC (R-14), Tube; Generic Part Number: AD8668; Manufacturer: Analog Devices; PartNumber: AD8668ARZ; Amplifiers Per Package: 4; Input Bias Current: 200fA; Input Offset Voltage: 600uV; Iq/Amp: 1.55mA; Small Signal Bandwidth: 4MHz; V Span Max: 16V; V Span Min: 5V; DatasheetVersion: Rev. B; PackageVersion: 060606-A; PackageReference: R-14; PackageDescription: 14-Pin Standard Small Outline Package, Body 8.65 x 3.9 mm, Pitch 1.27 mm; Supplier 1: Digi-Key; Supplier Part Number 1: AD8668ARZ-ND; Supplier 2: Farnell; Supplier Part Number 2: 1274212; Supplier 3: Newark; Supplier Part Number 3: 31M4601; Supplier 4: Newark; Supplier Part Number 4: 19M0997; Slew Rate: 3.5V/us; Mounting Technology: Surface Mount; Code_JEDEC: MS-012-AB; ComponentLink1Description: Manufacturer URL; ComponentLink1URL: http://www.analog.com/en/index.html; ComponentLink2Description: Datasheet; ComponentLink2URL: http://www.analog.com/static/imported-files/data_sheets/AD8665_AD8666_AD8668.pdf; ComponentLink3Description: Package Specification; ComponentLink3URL: http://www.analog.com/static/imported-files/packages/PKG_PDF/SOIC_Narrow%20(R)/R_14.pdf
footprint ADI-R-14_N (SOIC, 14-Leads, Body 8.65x3.9mm, Pitch 1.27mm, IPC Medium Density)
footprint ADI-R-14_L (SOIC, 14-Leads, Body 8.65x3.9mm, Pitch 1.27mm, IPC High Density)
footprint ADI-R-14_M (SOIC, 14-Leads, Body 8.65x3.9mm, Pitch 1.27mm, IPC Low Density)
pins on every part: 4 +V (power), 11 -V (power)
part A pins: 1 OUT A (out), 2 -IN A (in), 3 +IN A (in)
part B pins: 5 +IN B (in), 6 -IN B (in), 7 OUT B (out)
part C pins: 8 OUT C (out), 9 -IN C (in), 10 +IN C (in)
part D pins: 12 +IN D (in), 13 -IN D (in), 14 OUT D (out)

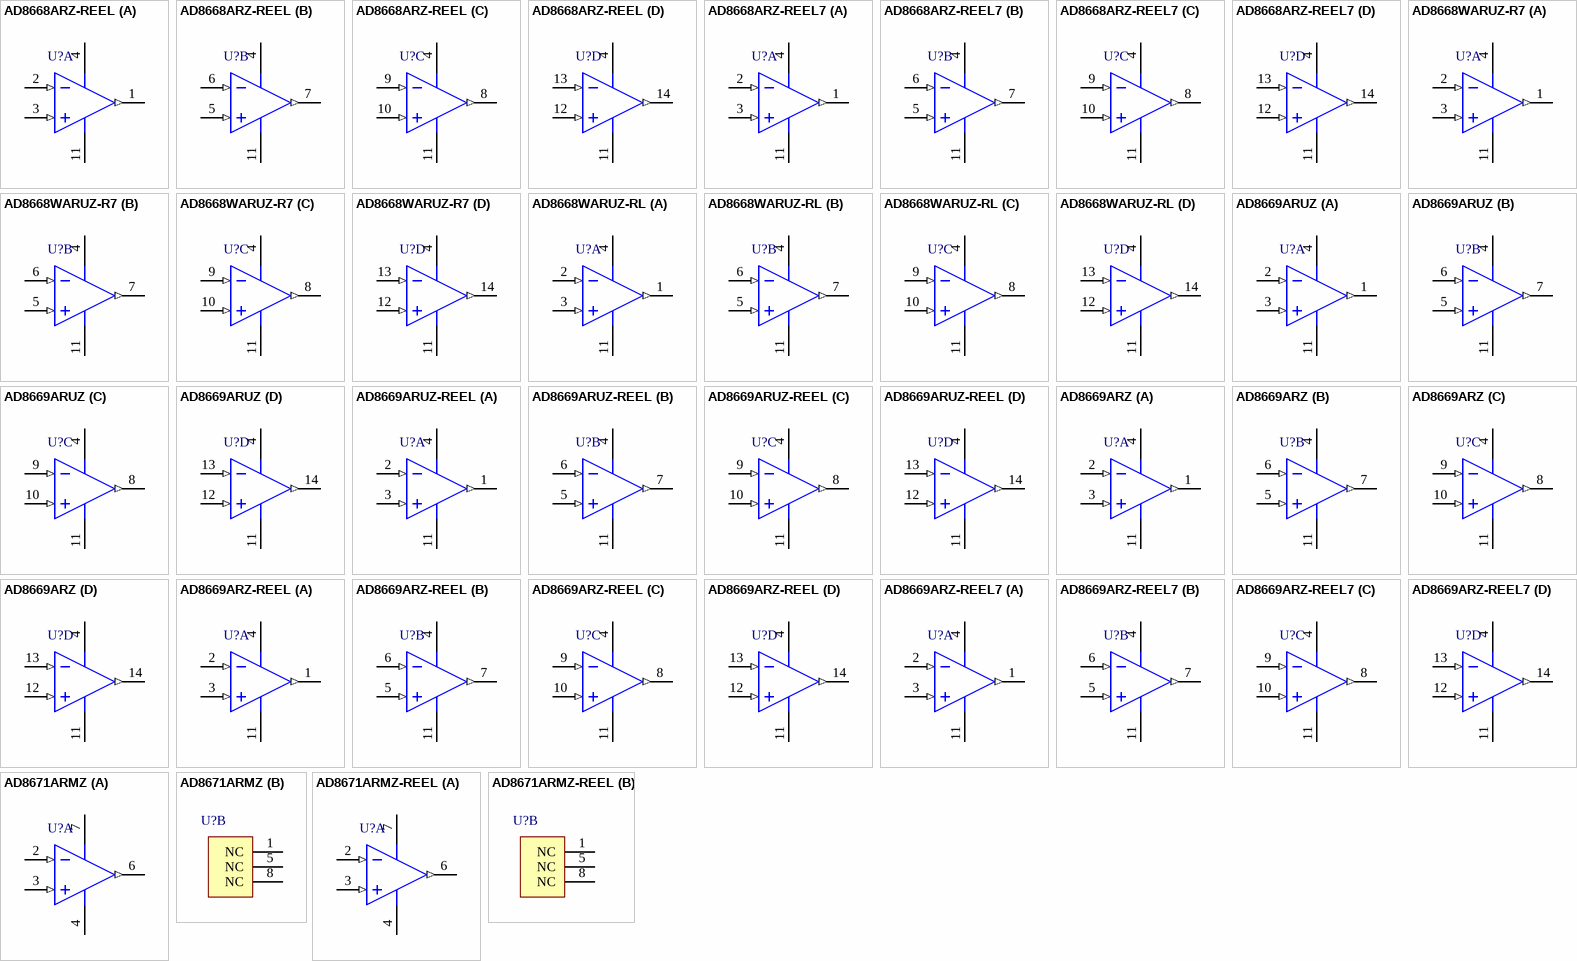
[diagram p66: symbols AD8668ARZ-REEL to AD8671ARMZ-REEL]

## AD8668ARZ-REEL
designator U?
Quad Channel Wide Bandwidth Operational Amplifier, 4 MHz BW, 3.5 V/us SR, Industrial, 14-pin SOIC (R-14), Reel; Generic Part Number: AD8668; Manufacturer: Analog Devices; PartNumber: AD8668ARZ-REEL; Amplifiers Per Package: 4; Input Bias Current: 200fA; Input Offset Voltage: 600uV; Iq/Amp: 1.55mA; Small Signal Bandwidth: 4MHz; V Span Max: 16V; V Span Min: 5V; DatasheetVersion: Rev. B; PackageVersion: 060606-A; PackageReference: R-14; PackageDescription: 14-Pin Standard Small Outline Package, Body 8.65 x 3.9 mm, Pitch 1.27 mm; Supplier 1: Digi-Key; Supplier Part Number 1: AD8668ARZ-REEL-ND; Slew Rate: 3.5V/us; Mounting Technology: Surface Mount; Code_JEDEC: MS-012-AB; ComponentLink1Description: Manufacturer URL; ComponentLink1URL: http://www.analog.com/en/index.html; ComponentLink2Description: Datasheet; ComponentLink2URL: http://www.analog.com/static/imported-files/data_sheets/AD8665_AD8666_AD8668.pdf; ComponentLink3Description: Package Specification; ComponentLink3URL: http://www.analog.com/static/imported-files/packages/PKG_PDF/SOIC_Narrow%20(R)/R_14.pdf
footprint ADI-R-14_N (SOIC, 14-Leads, Body 8.65x3.9mm, Pitch 1.27mm, IPC Medium Density)
footprint ADI-R-14_L (SOIC, 14-Leads, Body 8.65x3.9mm, Pitch 1.27mm, IPC High Density)
footprint ADI-R-14_M (SOIC, 14-Leads, Body 8.65x3.9mm, Pitch 1.27mm, IPC Low Density)
pins on every part: 4 +V (power), 11 -V (power)
part A pins: 1 OUT A (out), 2 -IN A (in), 3 +IN A (in)
part B pins: 5 +IN B (in), 6 -IN B (in), 7 OUT B (out)
part C pins: 8 OUT C (out), 9 -IN C (in), 10 +IN C (in)
part D pins: 12 +IN D (in), 13 -IN D (in), 14 OUT D (out)

## AD8668ARZ-REEL7
designator U?
Quad Channel Wide Bandwidth Operational Amplifier, 4 MHz BW, 3.5 V/us SR, Industrial, 14-pin SOIC (R-14), Reel; Generic Part Number: AD8668; Manufacturer: Analog Devices; PartNumber: AD8668ARZ-REEL7; Amplifiers Per Package: 4; Input Bias Current: 200fA; Input Offset Voltage: 600uV; Iq/Amp: 1.55mA; Small Signal Bandwidth: 4MHz; V Span Max: 16V; V Span Min: 5V; DatasheetVersion: Rev. B; PackageVersion: 060606-A; PackageReference: R-14; PackageDescription: 14-Pin Standard Small Outline Package, Body 8.65 x 3.9 mm, Pitch 1.27 mm; Supplier 1: Digi-Key; Supplier Part Number 1: AD8668ARZ-REEL7-ND; Slew Rate: 3.5V/us; Mounting Technology: Surface Mount; Code_JEDEC: MS-012-AB; ComponentLink1Description: Manufacturer URL; ComponentLink1URL: http://www.analog.com/en/index.html; ComponentLink2Description: Datasheet; ComponentLink2URL: http://www.analog.com/static/imported-files/data_sheets/AD8665_AD8666_AD8668.pdf; ComponentLink3Description: Package Specification; ComponentLink3URL: http://www.analog.com/static/imported-files/packages/PKG_PDF/SOIC_Narrow%20(R)/R_14.pdf
footprint ADI-R-14_N (SOIC, 14-Leads, Body 8.65x3.9mm, Pitch 1.27mm, IPC Medium Density)
footprint ADI-R-14_L (SOIC, 14-Leads, Body 8.65x3.9mm, Pitch 1.27mm, IPC High Density)
footprint ADI-R-14_M (SOIC, 14-Leads, Body 8.65x3.9mm, Pitch 1.27mm, IPC Low Density)
pins on every part: 4 +V (power), 11 -V (power)
part A pins: 1 OUT A (out), 2 -IN A (in), 3 +IN A (in)
part B pins: 5 +IN B (in), 6 -IN B (in), 7 OUT B (out)
part C pins: 8 OUT C (out), 9 -IN C (in), 10 +IN C (in)
part D pins: 12 +IN D (in), 13 -IN D (in), 14 OUT D (out)

## AD8668WARUZ-R7
designator U?
Quad Channel Wide Bandwidth Operational Amplifier, 4 MHz BW, 3.5 V/us SR, Automotive, 14-pin SOP (RU-14), Reel; Generic Part Number: AD8668; Manufacturer: Analog Devices; PartNumber: AD8668WARUZ-R7; Amplifiers Per Package: 4; Input Bias Current: 200fA; Input Offset Voltage: 600uV; Iq/Amp: 1.55mA; Small Signal Bandwidth: 4MHz; V Span Max: 16V; V Span Min: 5V; DatasheetVersion: Rev. B; PackageReference: RU-14; PackageDescription: 14-Pin Thin Shrink Small Outline Package, Body 5 x 4.4 mm, Pitch 0.65 mm; Supplier 1: Digi-Key; Supplier Part Number 1: AD8668WARUZ-R7-ND; Slew Rate: 3.5V/us; Mounting Technology: Surface Mount; Code_JEDEC: MO-153AB-1; ComponentLink1Description: Manufacturer URL; ComponentLink1URL: http://www.analog.com/en/index.html; ComponentLink2Description: Datasheet; ComponentLink2URL: http://www.analog.com/static/imported-files/data_sheets/AD8665_AD8666_AD8668.pdf; ComponentLink3Description: Package Specification; ComponentLink3URL: http://www.analog.com/static/imported-files/packages/36057385283879153717235186773RU14.pdf
footprint ADI-RU-14_N (SOP, 14-Leads, Body 5x4.4mm, Pitch 0.65mm, IPC Medium Density)
footprint ADI-RU-14_L (SOP, 14-Leads, Body 5x4.4mm, Pitch 0.65mm, IPC High Density)
footprint ADI-RU-14_M (SOP, 14-Leads, Body 5x4.4mm, Pitch 0.65mm, IPC Low Density)
pins on every part: 4 +V (power), 11 -V (power)
part A pins: 1 OUT A (out), 2 -IN A (in), 3 +IN A (in)
part B pins: 5 +IN B (in), 6 -IN B (in), 7 OUT B (out)
part C pins: 8 OUT C (out), 9 -IN C (in), 10 +IN C (in)
part D pins: 12 +IN D (in), 13 -IN D (in), 14 OUT D (out)

## AD8668WARUZ-RL
designator U?
Quad Channel Wide Bandwidth Operational Amplifier, 4 MHz BW, 3.5 V/us SR, Automotive, 14-pin SOP (RU-14), Reel; Generic Part Number: AD8668; Manufacturer: Analog Devices; PartNumber: AD8668WARUZ-RL; Amplifiers Per Package: 4; Input Bias Current: 200fA; Input Offset Voltage: 600uV; Iq/Amp: 1.55mA; Small Signal Bandwidth: 4MHz; V Span Max: 16V; V Span Min: 5V; DatasheetVersion: Rev. B; PackageReference: RU-14; PackageDescription: 14-Pin Thin Shrink Small Outline Package, Body 5 x 4.4 mm, Pitch 0.65 mm; Supplier 1: Digi-Key; Supplier Part Number 1: AD8668WARUZ-RL-ND; Slew Rate: 3.5V/us; Mounting Technology: Surface Mount; Code_JEDEC: MO-153AB-1; ComponentLink1Description: Manufacturer URL; ComponentLink1URL: http://www.analog.com/en/index.html; ComponentLink2Description: Datasheet; ComponentLink2URL: http://www.analog.com/static/imported-files/data_sheets/AD8665_AD8666_AD8668.pdf; ComponentLink3Description: Package Specification; ComponentLink3URL: http://www.analog.com/static/imported-files/packages/36057385283879153717235186773RU14.pdf
footprint ADI-RU-14_N (SOP, 14-Leads, Body 5x4.4mm, Pitch 0.65mm, IPC Medium Density)
footprint ADI-RU-14_L (SOP, 14-Leads, Body 5x4.4mm, Pitch 0.65mm, IPC High Density)
footprint ADI-RU-14_M (SOP, 14-Leads, Body 5x4.4mm, Pitch 0.65mm, IPC Low Density)
pins on every part: 4 +V (power), 11 -V (power)
part A pins: 1 OUT A (out), 2 -IN A (in), 3 +IN A (in)
part B pins: 5 +IN B (in), 6 -IN B (in), 7 OUT B (out)
part C pins: 8 OUT C (out), 9 -IN C (in), 10 +IN C (in)
part D pins: 12 +IN D (in), 13 -IN D (in), 14 OUT D (out)

## AD8669ARUZ
designator U?
Quad Channel Single-Supply Operation Operational Amplifier, 520 KHz BW, 260 mV/us SR, Industrial, 14-pin SOP (RU-14), Tube; Generic Part Number: AD8669; Manufacturer: Analog Devices; PartNumber: AD8669ARUZ; Amplifiers Per Package: 4; Input Bias Current: 300fA; Input Offset Voltage: 30uV; Iq/Amp: 285uA; Small Signal Bandwidth: 520KHz; V Span Max: 16V; V Span Min: 5V; DatasheetVersion: Rev. B; PackageReference: RU-14; PackageDescription: 14-Pin Thin Shrink Small Outline Package, Body 5 x 4.4 mm, Pitch 0.65 mm; Supplier 1: Digi-Key; Supplier Part Number 1: AD8669ARUZ-ND; Slew Rate: 260mV/us; Mounting Technology: Surface Mount; Code_JEDEC: MO-153AB-1; ComponentLink1Description: Manufacturer URL; ComponentLink1URL: http://www.analog.com/en/index.html; ComponentLink2Description: Datasheet; ComponentLink2URL: http://www.analog.com/static/imported-files/data_sheets/AD8663_8667_8669.pdf; ComponentLink3Description: Package Specification; ComponentLink3URL: http://www.analog.com/static/imported-files/packages/36057385283879153717235186773RU14.pdf
footprint ADI-RU-14_N (SOP, 14-Leads, Body 5x4.4mm, Pitch 0.65mm, IPC Medium Density)
footprint ADI-RU-14_L (SOP, 14-Leads, Body 5x4.4mm, Pitch 0.65mm, IPC High Density)
footprint ADI-RU-14_M (SOP, 14-Leads, Body 5x4.4mm, Pitch 0.65mm, IPC Low Density)
pins on every part: 4 +V (power), 11 -V (power)
part A pins: 1 OUT A (out), 2 -IN A (in), 3 +IN A (in)
part B pins: 5 +IN B (in), 6 -IN B (in), 7 OUT B (out)
part C pins: 8 OUT C (out), 9 -IN C (in), 10 +IN C (in)
part D pins: 12 +IN D (in), 13 -IN D (in), 14 OUT D (out)